# Altium integrated library 221790-1.IntLib: 1 symbol
Pins are listed as number, name and electrical type; pins without a type are passive.

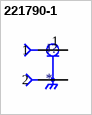
[diagram p0: symbol 221790-1]

## 221790-1
designator J?
<b>Connector; SMA; PCB; Right Angle; Stainless Steel; 0.6 in.; Beryllium Copper</b>; MP: 221790-1; Package: None; Value: *; Availability: Unavailable; Price: None
footprint TE_221790-1
pins: 1, 2, 3 2, 4 2, 5 2